# Altium footprint library D38999 footprints.PcbLib: 3 footprints
Each footprint in its own frame and in the unit in brackets; x right, y up, seen from the top. Pads: shape width x height; smd on the part's side, far side on the other; paste and mask are expansions set on the pad; w line width, h text height; cw(c..) or ccw(c..) is an arc to the next point about the centre after c.
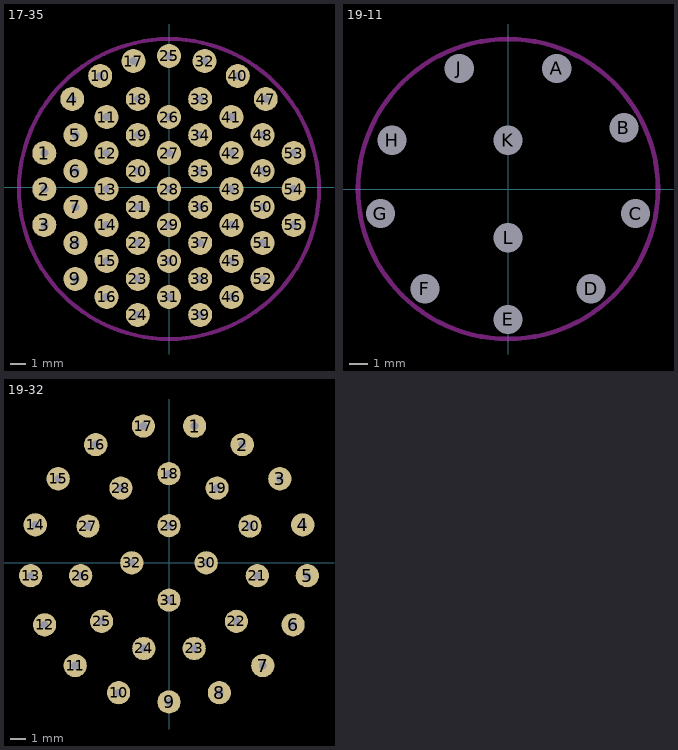
[diagram p0: the footprints below, top view; thin cyan lines are the x and y axes]

## 17-35 [mil]
pads (55):
  round 60 hole 20: 1(-312,86) 2(-312,-4) 3(-312,-94) 4(-242,221) 5(-234,131) 6(-234,41) 7(-234,-49) 8(-234,-139) 9(-234,-229) 10(-172,279) 11(-156,176) 12(-156,86) 13(-156,-4) 14(-156,-94) 15(-156,-184) 16(-156,-274) 17(-89,316) 18(-78,221) 19(-78,131) 20(-78,41) 21(-78,-49) 22(-78,-139) 23(-78,-229) 24(-78,-319) 25(0,329) 26(0,176) 27(0,86) 28(0,-4) 29(0,-94) 30(0,-184) 31(0,-274) 32(89,316) 33(78,221) 34(78,131) 35(78,41) 36(78,-49) 37(78,-139) 38(78,-229) 39(78,-319) 40(172,279) 41(156,176) 42(156,86) 43(156,-4) 44(156,-94) 45(156,-184) 46(156,-274) 47(242,221) 48(234,131) 49(234,41) 50(234,-49) 51(234,-139) 52(234,-229) 53(312,86) 54(312,-4) 55(312,-94)
Top Layer keep-out:
  circle w10: c0,-4 r375.21

## 19-11 [mil]
pads (11):
  round 60 hole 63: A(105,260) B(250,132) C(275,-53) D(179,-215) E(0,-281) F(-179,-215) G(-275,-53) H(-250,105) J(-105,260) K(0,105) L(0,-105)
Top Layer keep-out:
  circle w10: c0,0 r323.3

## 19-32 [mil]
pads (32):
  round 60 hole 20: 1(66,353) 2(189,305) 3(286,217) 4(345,98) 5(357,-33) 6(320,-160) 7(242,-265) 8(130,-335) 9(0,-359) 10(-130,-335) 11(-242,-265) 12(-321,-160) 13(-357,-33) 14(-345,98) 15(-286,217) 16(-189,305) 17(-66,353) 18(0,230) 19(124,193) 20(209,95) 21(228,-33) 22(174,-151) 23(65,-221) 24(-65,-221) 25(-174,-151) 26(-228,-33) 27(-209,95) 28(-124,193) 29(0,96) 30(96,0) 31(0,-96) 32(-96,0)